# EAGLE library part 71607-313LF (library ltobms)
DUBOX / Tube RoHS Compliant: Yes Source: Datasheet
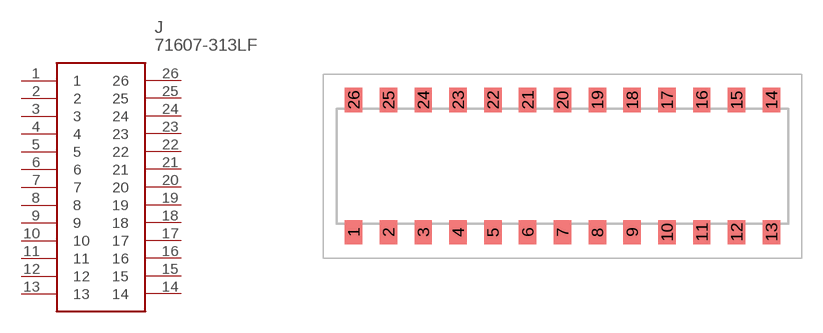
[diagram p0: symbol with the pads of 71607313LF; footprint 71607313LF]

Designator prefix J

## 71607-313LF (DESCRIPTION: DUBOX / Tube RoHS Compliant: Yes; HEIGHT: 3.29mm; MANUFACTURER_NAME: Amphenol; MANUFACTURER_PART_NUMBER: 71607-313LF; MOUSER_PART_NUMBER: 649-71607-313LF; MOUSER_PRICE-STOCK: https://www.mouser.co.uk/ProductDetail/Amphenol-FCI/71607-313LF?qs=yJYkLTYh574OxHiM9YZfow%3D%3D)  [71607313LF]
1  1
2  2
3  3
4  4
5  5
6  6
7  7
8  8
9  9
10  10
11  11
12  12
13  13
14  14
15  15
16  16
17  17
18  18
19  19
20  20
21  21
22  22
23  23
24  24
25  25
26  26

## Footprint 71607313LF (pad centres in mm)
71607-313LF-1
smd 1.27 x 1.78: 1 -15.24,-4.825; 2 -12.7,-4.825; 3 -10.16,-4.825; 4 -7.62,-4.825; 5 -5.08,-4.825; 6 -2.54,-4.825; 7 0,-4.825; 8 2.54,-4.825; 9 5.08,-4.825; 10 7.62,-4.825; 11 10.16,-4.825; 12 12.7,-4.825; 13 15.24,-4.825; 14 15.24,4.825; 15 12.7,4.825; 16 10.16,4.825; 17 7.62,4.825; 18 5.08,4.825; 19 2.54,4.825; 20 0,4.825; 21 -2.54,4.825; 22 -5.08,4.825; 23 -7.62,4.825; 24 -10.16,4.825; 25 -12.7,4.825; 26 -15.24,4.825